# Altium schematic symbol library relay_dpdt.Schlib: 1 symbol
Pins are listed as number, name and electrical type; pins without a type are passive.

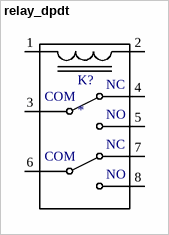
[diagram p0: symbol relay_dpdt]

## relay_dpdt
designator K?
DPDT Relay
pins: 1, 2, 3 COM, 4 NC, 5 NO, 6 COM, 7 NC, 8 NO